# EAGLE library part UC864 (library telit-modules (2))
Telit UC864-E/G
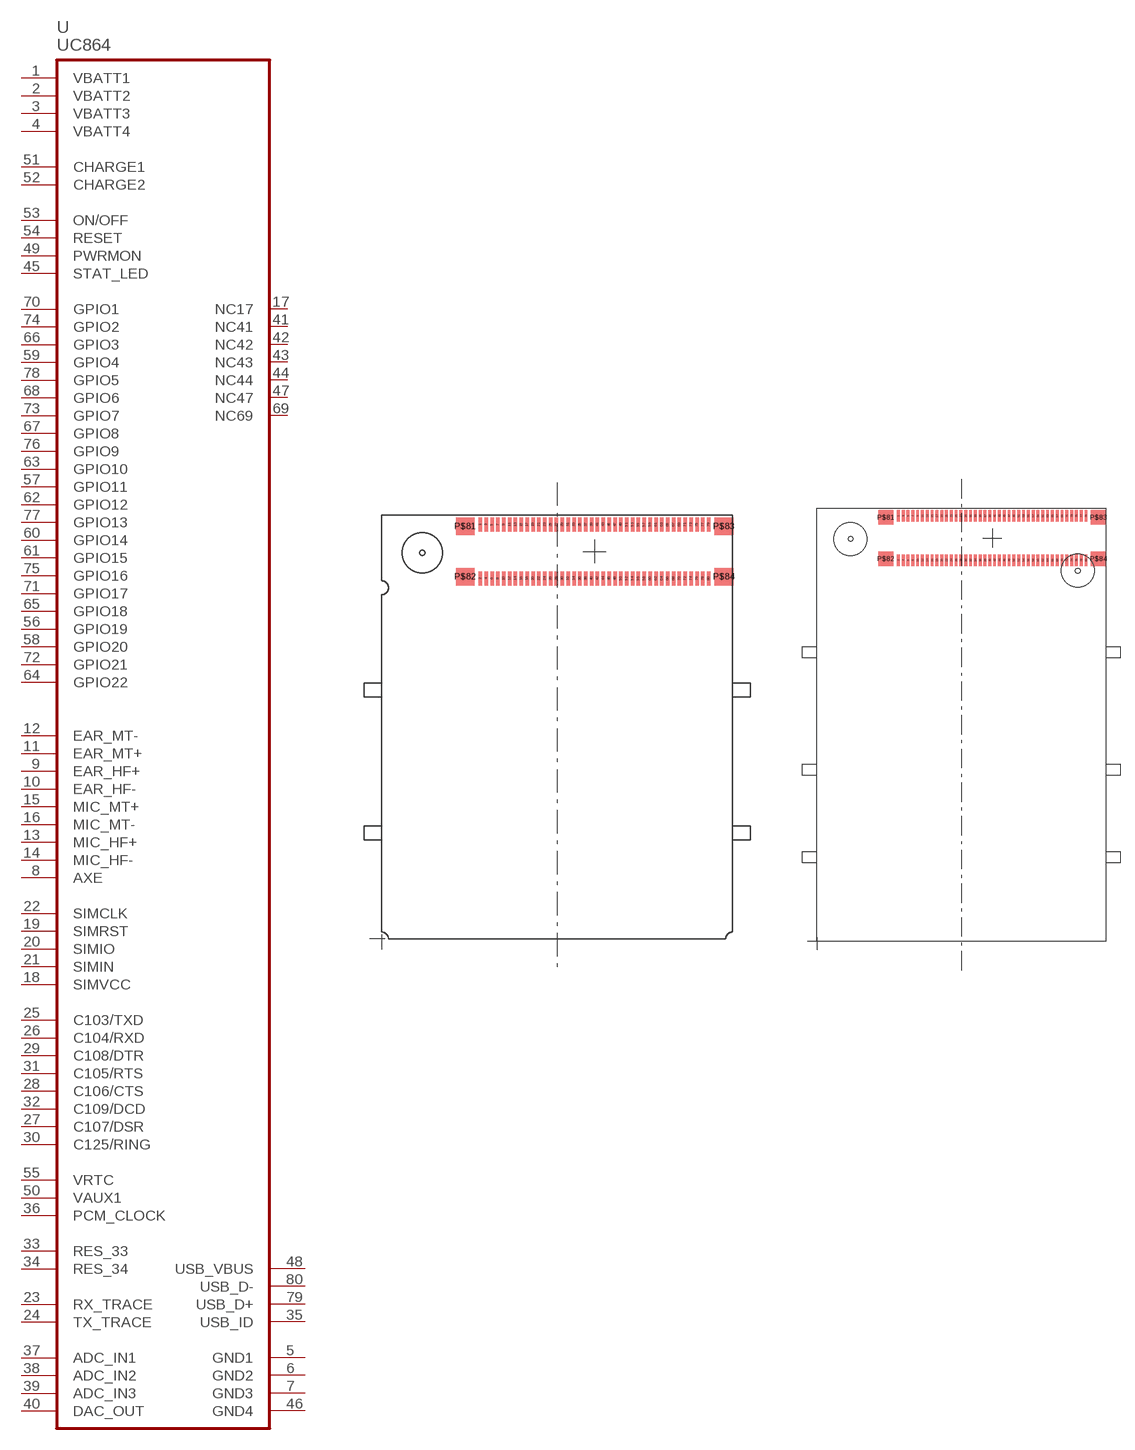
[diagram p1: symbol with the pads of GC864; footprints GC864, UC864-G]

Designator prefix -

## UC864UC864-E  [GC864]
1  VBATT1  pwr
2  VBATT2  pwr
3  VBATT3  pwr
4  VBATT4  pwr
5  GND1  pwr
6  GND2  pwr
7  GND3  pwr
8  AXE  in
9  EAR_HF+  pas
10  EAR_HF-  pas
11  EAR_MT+  pas
12  EAR_MT-  pas
13  MIC_HF+  pas
14  MIC_HF-  pas
15  MIC_MT+  pas
16  MIC_MT-  pas
17  NC17  nc
18  SIMVCC  pas
19  SIMRST  out
20  SIMIO
21  SIMIN  in
22  SIMCLK  out
23  RX_TRACE  pas
24  TX_TRACE  pas
25  C103/TXD  in
26  C104/RXD  out
27  C107/DSR  out
28  C106/CTS  out
29  C108/DTR  in
30  C125/RING  out
31  C105/RTS  in
32  C109/DCD  out
33  RES_33  nc
34  RES_34
35  USB_ID
36  PCM_CLOCK  nc
37  ADC_IN1  in
38  ADC_IN2  in
39  ADC_IN3  in
40  DAC_OUT  out
41  NC41  nc
42  NC42  nc
43  NC43  nc
44  NC44
45  STAT_LED  out
46  GND4  pwr
47  NC47  nc
48  USB_VBUS  nc
49  PWRMON
50  VAUX1  pas
51  CHARGE1  pwr
52  CHARGE2  pwr
53  ON/OFF  in
54  RESET  in
55  VRTC  pas
56  GPIO19
57  GPIO11
58  GPIO20
59  GPIO4
60  GPIO14
61  GPIO15
62  GPIO12
63  GPIO10
64  GPIO22
65  GPIO18
66  GPIO3
67  GPIO8
68  GPIO6
69  NC69
70  GPIO1
71  GPIO17
72  GPIO21
73  GPIO7
74  GPIO2
75  GPIO16
76  GPIO9
77  GPIO13
78  GPIO5
79  USB_D+  nc
80  USB_D-  nc

## UC864UC864-G  [UC864-G]
Pads as for GC864

## Footprint GC864 (pad centres in mm)
smd 0.3 x 1.2: 1 -9.75,2.3; 2 -9.75,-2.3; 3 -9.25,2.3; 4 -9.25,-2.3; 5 -8.75,2.3; 6 -8.75,-2.3; 7 -8.25,2.3; 8 -8.25,-2.3; 9 -7.75,2.3; 10 -7.75,-2.3; 11 -7.25,2.3; 12 -7.25,-2.3; 13 -6.75,2.3; 14 -6.75,-2.3; 15 -6.25,2.3; 16 -6.25,-2.3; 17 -5.75,2.3; 18 -5.75,-2.3; 19 -5.25,2.3; 20 -5.25,-2.3; 21 -4.75,2.3; 22 -4.75,-2.3; 23 -4.25,2.3; 24 -4.25,-2.3; 25 -3.75,2.3; 26 -3.75,-2.3; 27 -3.25,2.3; 28 -3.25,-2.3; 29 -2.75,2.3; 30 -2.75,-2.3; 31 -2.25,2.3; 32 -2.25,-2.3; 33 -1.75,2.3; 34 -1.75,-2.3; 35 -1.25,2.3; 36 -1.25,-2.3; 37 -0.75,2.3; 38 -0.75,-2.3; 39 -0.25,2.3; 40 -0.25,-2.3; 41 0.25,2.3; 42 0.25,-2.3; 43 0.75,2.3; 44 0.75,-2.3; 45 1.25,2.3; 46 1.25,-2.3; 47 1.75,2.3; 48 1.75,-2.3; 49 2.25,2.3; 50 2.25,-2.3; 51 2.75,2.3; 52 2.75,-2.3; 53 3.25,2.3; 54 3.25,-2.3; 55 3.75,2.3; 56 3.75,-2.3; 57 4.25,2.3; 58 4.25,-2.3; 59 4.75,2.3; 60 4.75,-2.3; 61 5.25,2.3; 62 5.25,-2.3; 63 5.75,2.3; 64 5.75,-2.3; 65 6.25,2.3; 66 6.25,-2.3; 67 6.75,2.3; 68 6.75,-2.3; 69 7.25,2.3; 70 7.25,-2.3; 71 7.75,2.3; 72 7.75,-2.3; 73 8.25,2.3; 74 8.25,-2.3; 75 8.75,2.3; 76 8.75,-2.3; 77 9.25,2.3; 78 9.25,-2.3; 79 9.75,2.3; 80 9.75,-2.3
smd 1.6 x 1.5: P$81 -11.05,2.15; P$82 -11.05,-2.15; P$83 11.05,2.15; P$84 11.05,-2.15

## Footprint UC864-G (pad centres in mm)
smd 0.3 x 1.2: 1 8.45,44.2; 2 8.45,39.6; 3 8.95,44.2; 4 8.95,39.6; 5 9.45,44.2; 6 9.45,39.6; 7 9.95,44.2; 8 9.95,39.6; 9 10.45,44.2; 10 10.45,39.6; 11 10.95,44.2; 12 10.95,39.6; 13 11.45,44.2; 14 11.45,39.6; 15 11.95,44.2; 16 11.95,39.6; 17 12.45,44.2; 18 12.45,39.6; 19 12.95,44.2; 20 12.95,39.6; 21 13.45,44.2; 22 13.45,39.6; 23 13.95,44.2; 24 13.95,39.6; 25 14.45,44.2; 26 14.45,39.6; 27 14.95,44.2; 28 14.95,39.6; 29 15.45,44.2; 30 15.45,39.6; 31 15.95,44.2; 32 15.95,39.6; 33 16.45,44.2; 34 16.45,39.6; 35 16.95,44.2; 36 16.95,39.6; 37 17.45,44.2; 38 17.45,39.6; 39 17.95,44.2; 40 17.95,39.6; 41 18.45,44.2; 42 18.45,39.6; 43 18.95,44.2; 44 18.95,39.6; 45 19.45,44.2; 46 19.45,39.6; 47 19.95,44.2; 48 19.95,39.6; 49 20.45,44.2; 50 20.45,39.6; 51 20.95,44.2; 52 20.95,39.6; 53 21.45,44.2; 54 21.45,39.6; 55 21.95,44.2; 56 21.95,39.6; 57 22.45,44.2; 58 22.45,39.6; 59 22.95,44.2; 60 22.95,39.6; 61 23.45,44.2; 62 23.45,39.6; 63 23.95,44.2; 64 23.95,39.6; 65 24.45,44.2; 66 24.45,39.6; 67 24.95,44.2; 68 24.95,39.6; 69 25.45,44.2; 70 25.45,39.6; 71 25.95,44.2; 72 25.95,39.6; 73 26.45,44.2; 74 26.45,39.6; 75 26.95,44.2; 76 26.95,39.6; 77 27.45,44.2; 78 27.45,39.6; 79 27.95,44.2; 80 27.95,39.6
smd 1.6 x 1.5: P$81 7.15,44.05; P$82 7.15,39.75; P$83 29.25,44.05; P$84 29.25,39.75